# Altium integrated library Clock_4Digit_Segment.IntLib: 1 symbol
Pins are listed as number, name and electrical type; pins without a type are passive.

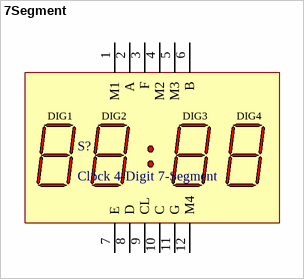
[diagram p0: symbol 7Segment]

## 7Segment
designator S?, comment Clock 4-Digit 7-Segment
Designed By @Alixahedi
footprint 7-Segment
pins: 1 M1 "Digit 1 Common Anode", 2 A "Digit 1 a Cathode", 3 F "Digit 1 f Cathode", 4 M2 "Digit 1 Common Anode", 5 M3 "Digit 1 Common Anode", 6 B "Digit 1 b Cathode", 7 E "Digit 1 e Cathode", 8 D "Digit 1 d Cathode", 9 CL "Digit 1 DP Cathode", 10 C "Digit 1 c Cathode", 11 G "Digit 1 g Cathode", 12 M4 "Digit 1 Common Anode"
text: DIG1; DIG2; DIG3; DIG4